# EAGLE library part KLS1-233 (library trafshlib)
Micro USB Connector With B Type Female SMT Source: Datasheet <http://www.klsele.com/admin/product_upload/20140626092713KLS1-233.pdf>
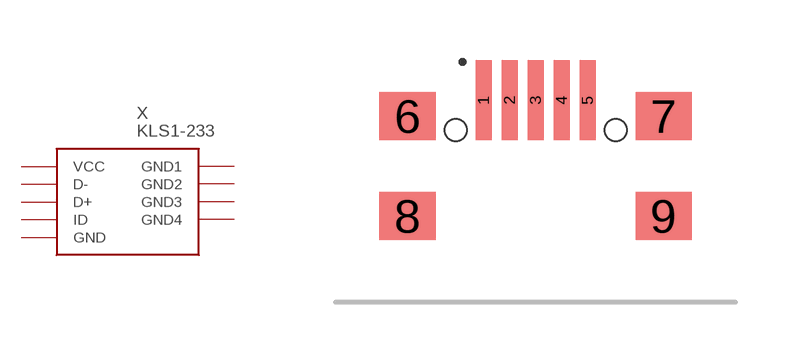
[diagram p11: symbol with the pads of KLS1233; footprint KLS1233]

Designator prefix X

## KLS1-233 (ARROW_PART_NUMBER: KLS1-233; DESCRIPTION: Micro USB Connector With B Type Female SMT; HEIGHT: 2mm; MANUFACTURER_NAME: KLS Electronic; MANUFACTURER_PART_NUMBER: KLS1-233)  [KLS1233]
1  VCC  pwr
2  D-
3  D+
4  ID
5  GND  pwr
6  GND1  pwr
7  GND2  pwr
8  GND3  pwr
9  GND4  pwr

## Footprint KLS1233 (pad centres in mm)
KLS1-233
smd 0.4 x 2: 1 -1.3,0.5; 2 -0.65,0.5; 3 0,0.5; 4 0.65,0.5; 5 1.3,0.5
smd 1.4 x 1.2: 6 -3.2,0.1; 7 3.2,0.1; 8 -3.2,-2.4; 9 3.2,-2.4
hole 0.55 at -2,-0.25
hole 0.55 at 2,-0.25